# EAGLE library part MALE_HEADER_6X1_2.54MM (library connectors)
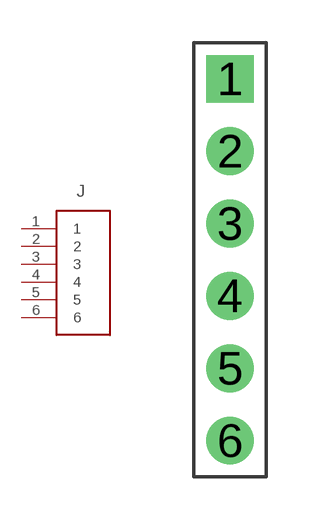
[diagram p22: symbol with the pads of HDR_6X1_2.54MM; footprint HDR_6X1_2.54MM]

Designator prefix J

## MALE_HEADER_6X1_2.54MM  [HDR_6X1_2.54MM]
1  1
2  2
3  3
4  4
5  5
6  6

## Footprint HDR_6X1_2.54MM (pad centres in mm)
drill 1 pad 1.676 square: 1 0,6.35
drill 1 pad 1.676: 2 0,3.81; 3 0,1.27; 4 0,-1.27; 5 0,-3.81; 6 0,-6.35